# Altium footprint library UVS-PcbLib.PcbLib: 37 footprints (part 2 of 3)
Each footprint in its own frame and in the unit in brackets; x right, y up, seen from the top. Pads: shape width x height; smd on the part's side, far side on the other; paste and mask are expansions set on the pad; w line width, h text height; cw(c..) or ccw(c..) is an arc to the next point about the centre after c.
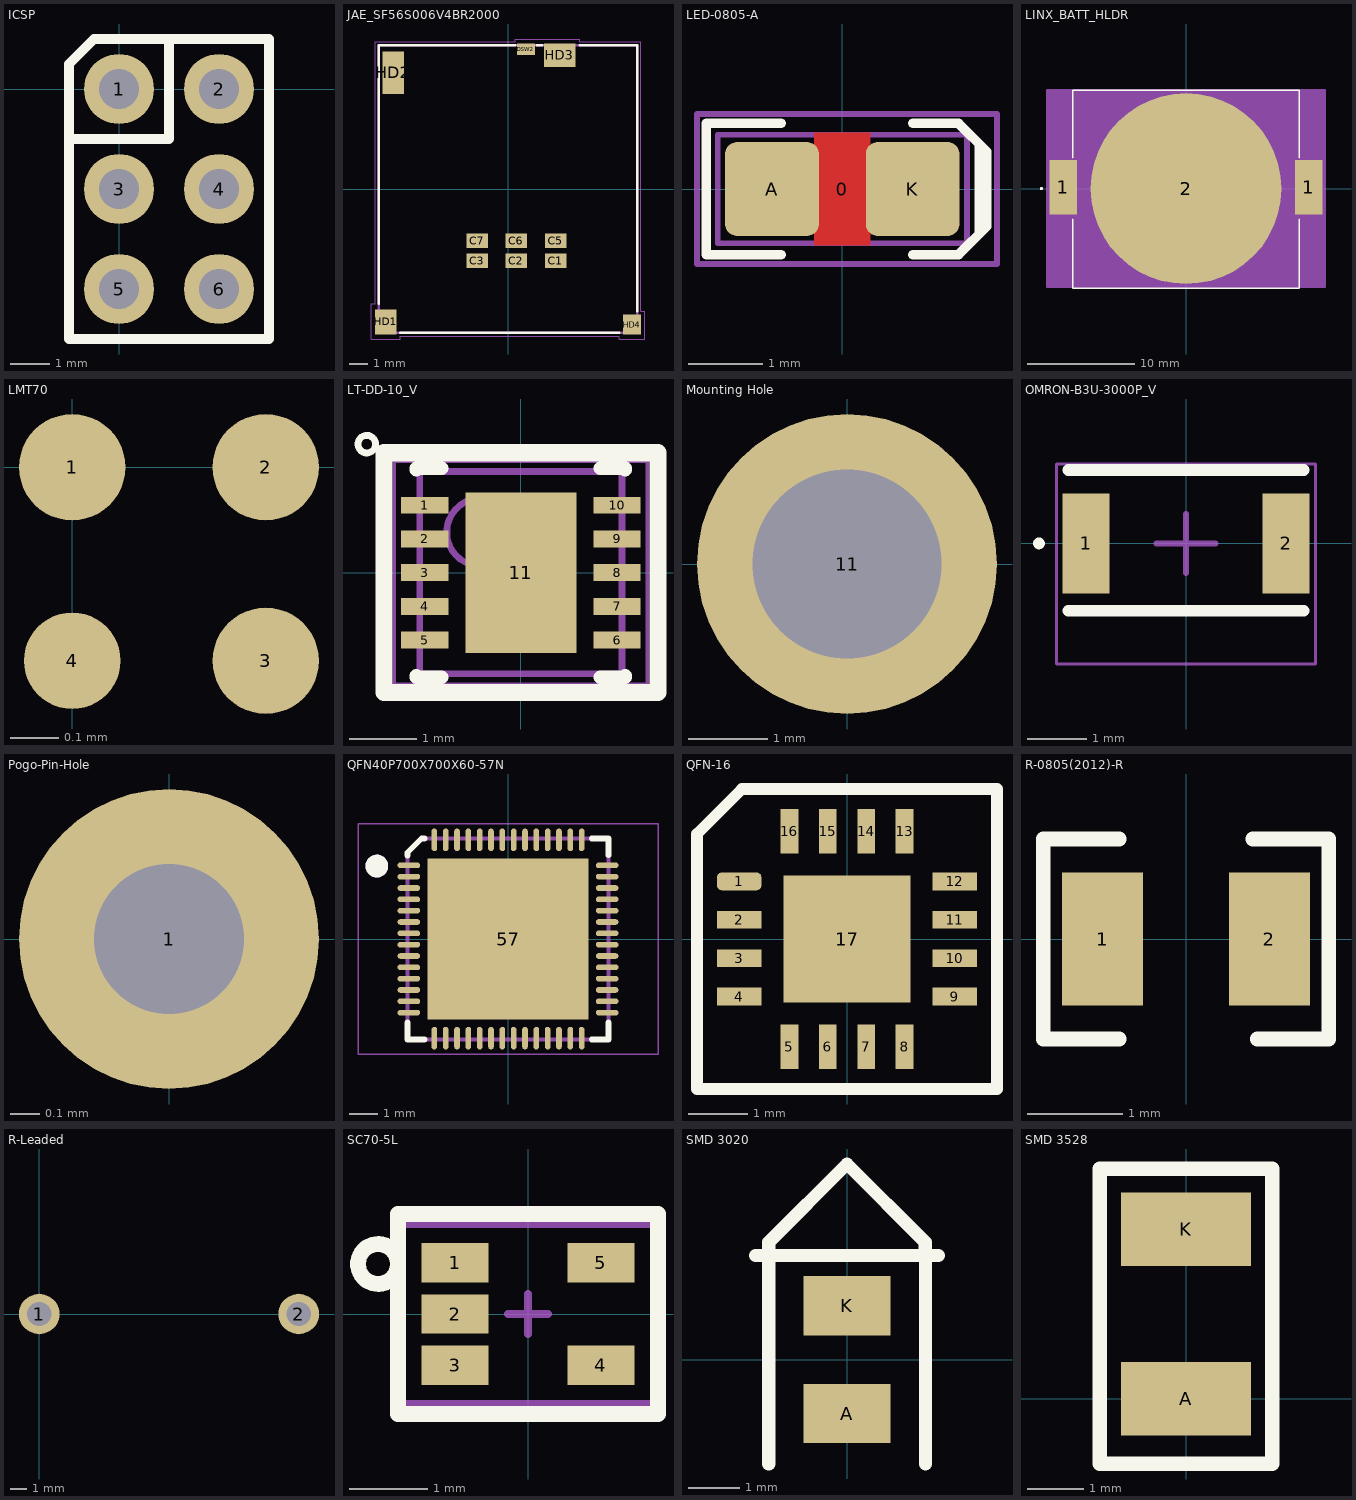
[diagram p1: the footprints below, top view; thin cyan lines are the x and y axes]

## ICSP [mil]
pads (6):
  round 70 hole 40: 1(0,0) 2(100,0) 3(0,-100) 4(100,-100) 5(0,-200) 6(100,-200)
Top Overlay:
  lines w10: -50,-50 50,-50 50,50 ; -50,-250 -50,25 -25,50 150,50 150,-250 -50,-250
3D body "ICSP.stp": height 484.65, standoff -105.84, extent -49.99,-249.99 150.01,50.01

## JAE_SF56S006V4BR2000 [mm] "SIM CARD"
pads (11):
  rect 1.2x0.8 smd: C1(2.66,-3.99) C2(0.47,-3.99) C3(-1.72,-3.99) C5(2.66,-2.89) C6(0.47,-2.89) C7(-1.72,-2.89)
  rect 1x0.65 smd: DSW2(1,7.775)
  rect 1.2x1.4 smd: HD1(-6.8,-7.4)
  rect 1.2x2.35 smd: HD2(-6.4,6.475)
  rect 1.75x1.3 smd: HD3(2.87,7.45)
  rect 1x1.1 smd: HD4(6.9,-7.55)
Top Overlay:
  lines w0.127: -7.2,-6.4 -7.2,8 0.4,8 ; -6,-8 6.2,-8 ; 1.6,8 1.8,8 1.8,8.001 1.905,8.001 ; 4,8 7.2,8 7.2,-6.8
Mechanical 1:
  lines w0.05: -7.6,-8.35 -6,-8.35 -6,-8.2 6.2,-8.2 6.2,-8.35 7.6,-8.35 7.6,-6.8 7.4,-6.8 7.4,8.2 4,8.2 4,8.35 0.4,8.35 0.4,8.2 -7.4,8.2 -7.4,-6.4 -7.6,-6.4 -7.6,-8.35
  lines w0.127: -7.2,-8 -7.2,8 7.2,8 7.2,-8 -7.2,-8
3D body: height 1.55, standoff 0, extent -6.71,-7.263 6.99,7.937

## LED-0805-A [mil]
height 31.5
pads (3):
  round 20 on Mech14: 0(0,0)
  rrect25% 50x50 smd: A(-37.5,0) K(37.5,0)
Top Layer:
  pour cut-out: -15,30 15,30 15,-30 -15,-30
Top Overlay:
  lines w5: -32.5,-35 -72.5,-35 -72.5,35 -32.5,35 ; 37.5,-35 62,-35 77,-20 77,20 62,35 37.5,35 ; 73,-24 73,24
Mechanical 13:
  lines w3: -66.5,-29 66.5,-29 66.5,29 -66.5,29 -66.5,-29
Mechanical 14:
  lines w3: -77.5,-40 82.5,-40 82.5,40 -77.5,40 -77.5,-40
3D body: height 31.5, standoff 11.81, extent -26.49,-24.61 28.65,24.6
3D body: height 11.81, standoff 3.94, extent -39.37,-24.61 39.37,24.61
3D body: height 3.94, standoff 0, extent -39.37,-24.61 39.37,24.61
3D body: height 3.94, standoff 0, extent -11.81,-15.75 11.81,15.75

## LINX_BATT_HLDR [mil]
pads (3):
  rect 100x200 smd: 1(-450,5) 1(450,5)
  round 700 smd: 2(0,0)
Top Overlay:
  circle w6: c-530,0 r3
  lines w6: -415,-113.1 -415,-365 415,-365 415,-113.1 ; -415,113.1 -415,360 415,360 415,113.1
Mechanical 13:
  circle w0: c-530,0 r3
  lines w1: -415,-305 415,-305 415,305 -415,305 -415,-305
Mechanical 15:
  region: 510,-362 -510,-362 -510,362 510,362
  lines w6: -510,-362 -510,362 510,362 510,-362 -510,-362
3D body "2032 Battery.STEP": height 125.98, standoff 0, extent -393.69,-393.69 393.71,393.71
3D body: height 10, standoff 0, extent 0,0 10,10
3D body "2032-BAT-HLDR.STEP": height 149.61, standoff 0, extent -405.35,-409.99 425.36,373.21

## LMT70 [mm] "TI ANALOG TEMPERATURE SENSOR"
pads (4):
  round 0.22 smd: 1(0,0) 2(0.4,0) 3(0.4,-0.4)
  round 0.2 smd: 4(0,-0.4)

## LT-DD-10_V [mm] "SON, 10-Leads, Body 3x3mm, Pitch 0.5mm, Thermal Pad 2.38x1.65mm"
height 0.8
pads (11):
  rect 0.7x0.25 smd mask+0.102: 1(-1.425,1) 2(-1.425,0.5) 3(-1.425,0) 4(-1.425,-0.5) 5(-1.425,-1) 6(1.425,-1) 7(1.425,-0.5) 8(1.425,0) 9(1.425,0.5) 10(1.425,1)
  rect 1.65x2.38 smd mask+0.102: 11(0,0)
Top Overlay:
  circle w0.1: c-2.286,1.905 r0.13
  lines w0.2: -1.55,-1.525 -1.55,-1.55 -1.175,-1.55 ; -1.55,1.525 -1.55,1.55 -1.175,1.55 ; 1.175,-1.55 1.55,-1.55 1.55,-1.525 ; 1.175,1.55 1.55,1.55 1.55,1.525
  lines w0.254: -2.032,-1.778 -2.032,1.778 2.032,1.778 2.032,-1.778 -2.032,-1.778
Mechanical 13:
  circle w0.1: c-0.6,0.6 r0.5
  lines w0.1: -1.5,-1.5 1.5,-1.5 1.5,1.5 -1.5,1.5 -1.5,-1.5
Mechanical 15:
  lines w0.05: -1.875,-1.65 1.875,-1.65 1.875,1.65 -1.875,1.65 -1.875,-1.65
  lines w0.1: -0.5,0 0.5,0 ; 0,-0.5 0,0.5
3D body: height 0.8, standoff 0, extent -1.5,-1.5 1.5,1.5

## Mounting Hole [mm] "M2 or 2-56 Mounting Hole"
pads (1):
  round 3.8 hole 2.4: 11(0,0)

## OMRON-B3U-3000P_V [mm] "SMD, 2-Leads, Body 4x3.2mm"
height 1.35
pads (2):
  rect 0.8x1.7 smd: 1(-1.7,0) 2(1.7,0)
Top Overlay:
  circle w0.1: c-2.5,0 r0.05
  lines w0.2: -2,-1.143 2,-1.143 ; -2,1.25 2,1.25
Mechanical 13:
  lines w0.1: -2,1.25 2,1.25
Mechanical 15:
  lines w0.05: -2.2,-2.05 2.2,-2.05 2.2,1.35 -2.2,1.35 -2.2,-2.05
  lines w0.1: -0.5,0 0.5,0 ; 0,-0.5 0,0.5
3D body "B3U_3000P[].step": height 1.2, standoff 0, extent -2,-1.95 2,1.25

## Pogo-Pin-Hole [mil]
pads (1):
  round 40 hole 20: 1(0,0)

## QFN40P700X700X60-57N [mm]
height 0.6
pads (57):
  oval 0.8x0.2 smd mask+0: 1(-3.5,2.6) 2(-3.5,2.2) 3(-3.5,1.8) 4(-3.5,1.4) 5(-3.5,1) 6(-3.5,0.6) 7(-3.5,0.2) 8(-3.5,-0.2) 9(-3.5,-0.6) 10(-3.5,-1) 11(-3.5,-1.4) 12(-3.5,-1.8) 13(-3.5,-2.2) 14(-3.5,-2.6) 29(3.5,-2.6) 30(3.5,-2.2) 31(3.5,-1.8) 32(3.5,-1.4) 33(3.5,-1) 34(3.5,-0.6) 35(3.5,-0.2) 36(3.5,0.2) 37(3.5,0.6) 38(3.5,1) 39(3.5,1.4) 40(3.5,1.8) 41(3.5,2.2) 42(3.5,2.6)
  oval 0.2x0.8 smd mask+0: 15(-2.6,-3.5) 16(-2.2,-3.5) 17(-1.8,-3.5) 18(-1.4,-3.5) 19(-1,-3.5) 20(-0.6,-3.5) 21(-0.2,-3.5) 22(0.2,-3.5) 23(0.6,-3.5) 24(1,-3.5) 25(1.4,-3.5) 26(1.8,-3.5) 27(2.2,-3.5) 28(2.6,-3.5) 43(2.6,3.5) 44(2.2,3.5) 45(1.8,3.5) 46(1.4,3.5) 47(1,3.5) 48(0.6,3.5) 49(0.2,3.5) 50(-0.2,3.5) 51(-0.6,3.5) 52(-1,3.5) 53(-1.4,3.5) 54(-1.8,3.5) 55(-2.2,3.5) 56(-2.6,3.5)
  rect 5.7x5.7 smd paste-5.7 mask+0: 57(0,0)
Top Overlay:
  circle w0.4: c-4.629,2.575 r0.2
  lines w0.2: -3.55,-2.95 -3.55,-3.55 -2.95,-3.55 ; -3.55,2.95 -3.55,3.05 -3.05,3.55 -2.95,3.55 ; 2.951,-3.55 3.55,-3.55 3.55,-2.95 ; 2.95,3.55 3.55,3.55 3.55,2.951
Top Paste:
  region: -0.25,0.25 -2.35,0.25 -2.35,2.35 -0.25,2.35
  region: 2.35,0.25 0.25,0.25 0.25,2.35 2.35,2.35
  region: 2.35,-2.35 0.25,-2.35 0.25,-0.25 2.35,-0.25
  region: -0.25,-2.35 -2.35,-2.35 -2.35,-0.25 -0.25,-0.25
Mechanical 13:
  circle w0.4: c-4.629,2.575 r0.2
  lines w0.15: -3.55,-3.55 -3.55,3.05 -3.05,3.55 3.55,3.55 3.55,-3.55 -3.55,-3.55
  text ".Designator" at -2.921,-0.254 h0.8
Mechanical 15:
  lines w0.05: -5.295,-4.064 5.295,-4.064 5.295,4.064 -5.295,4.064 -5.295,-4.064
3D body: height 0.6, standoff 0, extent -3.551,-3.551 3.551,3.551

## QFN-16 [mm]
pads (17):
  rrect50% 0.75x0.3 smd: 1(-1.825,0.975)
  rect 0.75x0.3 smd: 2(-1.825,0.325) 3(-1.825,-0.325) 4(-1.825,-0.975) 9(1.825,-0.975) 10(1.825,-0.325) 11(1.825,0.325) 12(1.825,0.975)
  rect 0.3x0.75 smd: 5(-0.975,-1.825) 6(-0.325,-1.825) 7(0.325,-1.825) 8(0.975,-1.825) 13(0.975,1.825) 14(0.325,1.825) 15(-0.325,1.825) 16(-0.975,1.825)
  rect 2.15x2.15 smd: 17(0,0)
Top Overlay:
  lines w0.2: -2.54,-2.54 2.54,-2.54 2.54,2.54 -1.778,2.54 -2.54,1.778 -2.54,-2.54
3D body "QFN_16.STEP": height 0.92, standoff 0, extent -2,-2 2,2

## R-0805(2012)-R [mm] "Resistor 0805(2012) Reflow"
pads (2):
  rect 0.85x1.4 smd: 1(-0.875,0) 2(0.875,0)
Top Overlay:
  lines w0.152: -0.7,-1.05 -1.5,-1.05 -1.5,1.05 -0.7,1.05 ; 0.7,1.05 1.5,1.05 1.5,-1.05 0.75,-1.05
3D body "RES0805.stp": height 0.5, standoff 0, extent -1,-0.625 1,0.625

## R-Leaded [mm] "250 mW Leaded Resistor"
pads (2):
  round 2.5 hole 1.5: 1(0,0) 2(16,0)

## SC70-5L [mm] "SC70, 5-Leads, Body 2.20x2.7mm, Pitch 0.65mm"
height 1.16
pads (5):
  rect 0.85x0.5 smd: 1(-0.925,0.65) 2(-0.925,0) 3(-0.925,-0.65) 4(0.925,-0.65) 5(0.925,0.65)
Top Overlay:
  circle w0.2: c-1.905,0.635 r0.254
  lines w0.2: -1.651,-1.27 -1.651,1.27 1.651,1.27 1.651,-1.27 -1.651,-1.27
Mechanical 15:
  lines w0.1: -1.651,-1.143 -1.651,1.143 ; -0.254,0 0.254,0 ; 0,-0.254 0,0.254 ; 1.651,-1.143 1.651,1.143
  lines w0.102: -1.651,-1.143 1.651,-1.143 ; -1.651,1.143 1.651,1.143
3D body "WE-TVS_Standard_SC70-5L_STD.stp": height 1, standoff 0, extent -1.1,-1 1.1,1

## SMD 3020 [mm]
pads (2):
  rect 1.7x1.15 smd: A(0,-1.05) K(0,1.05)
Top Overlay:
  lines w0.254: -1.778,2.032 -1.524,2.032 ; -1.524,-2.032 -1.524,2.032 ; 1.524,-2.032 1.524,2.032 ; 1.778,2.032 1.524,2.032 ; -1.524,2.032 -1.524,2.286 0,3.81 1.524,2.286 1.524,2.032 ; -1.524,2.032 1.524,2.032 ; 1.524,2.032 1.524,2.032
3D body "3528 SMD LED.stp": height 0.95, standoff -0.05, extent -1.4,-1.75 1.4,1.75

## SMD 3528 [mm]
pads (2):
  rect 2.3x1.3 smd: A(0,0) K(0,3)
Top Overlay:
  lines w0.254: -1.524,-1.143 -1.524,4.064 1.524,4.064 1.524,-1.143 -1.524,-1.143
3D body "3528 SMD LED.stp": height 0.95, standoff -0.05, extent -1.4,-0.099 1.4,3.401